# Altium footprint library ZOV-07DXXXK.PcbLib: 1 footprints
Each footprint in its own frame and in the unit in brackets; x right, y up, seen from the top. Pads: shape width x height; smd on the part's side, far side on the other; paste and mask are expansions set on the pad; w line width, h text height; cw(c..) or ccw(c..) is an arc to the next point about the centre after c.
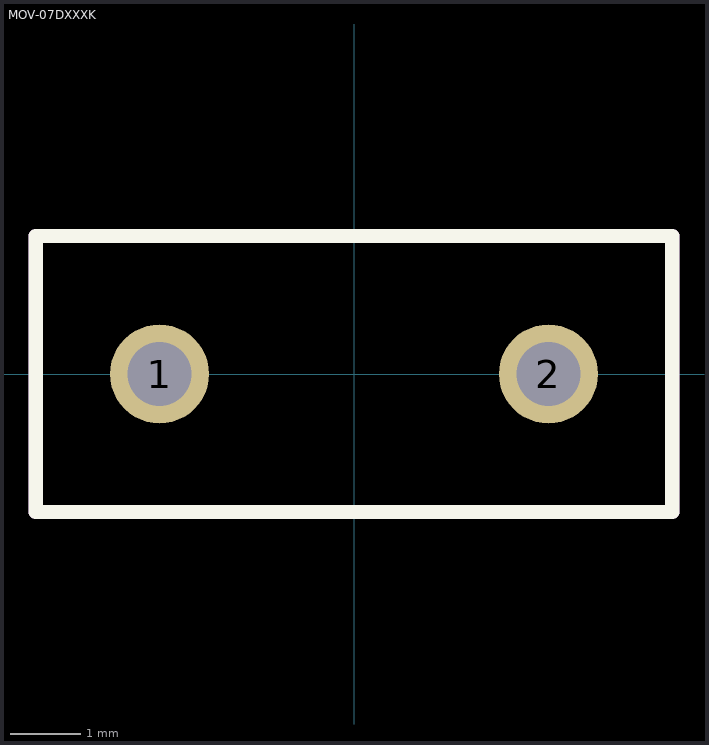
[diagram p0: the footprint, top view; thin cyan lines are the x and y axes]

## MOV-07DXXXK [mm]
pads (2):
  round 1.4 hole 0.9: 1(-2.75,0) 2(2.75,0)
Top Overlay:
  lines w0.2: -4.5,-1.95 -4.5,1.95 4.5,1.95 4.5,-1.95 -4.5,-1.95
Mechanical 13:
  lines w0.2: -4.5,-1.95 4.5,-1.95 4.5,1.95 -4.5,1.95 -4.5,-1.95
3D body "MOV-07D470K.STEP": height 11.5, standoff -17.5, extent -5.137,-4.22 5.144,4.22